# Altium schematic symbol library MillMax.SchLib: 1 symbol
Pins are listed as number, name and electrical type; pins without a type are passive.

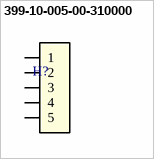
[diagram p0: symbol 399-10-005-00-310000]

## 399-10-005-00-310000
designator H?, comment STANDARD SOCKET HEADER  (value not drawn)
Connector Header Surface Mount 5 position 0.050" (1.27mm); MPN: 399-10-005-00-310000; Supplier 1: Arrow; Supplier Part Number 1: 399-10-005-00-310000; System: Connector
footprint 399-10-005-00-310000 (Conn Unshrouded Header HDR 6 POS 1.27mm Solder ST SMD)
footprint 399-10-005-00-310000 - TH (399-10-005-00-310000 Through-hole pattern)
pins: 1, 2, 3, 4, 5